# Altium schematic symbol library MainPCB_AISRobocup.SCHLIB: 48 symbols
Pins are listed as number, name and electrical type; pins without a type are passive.

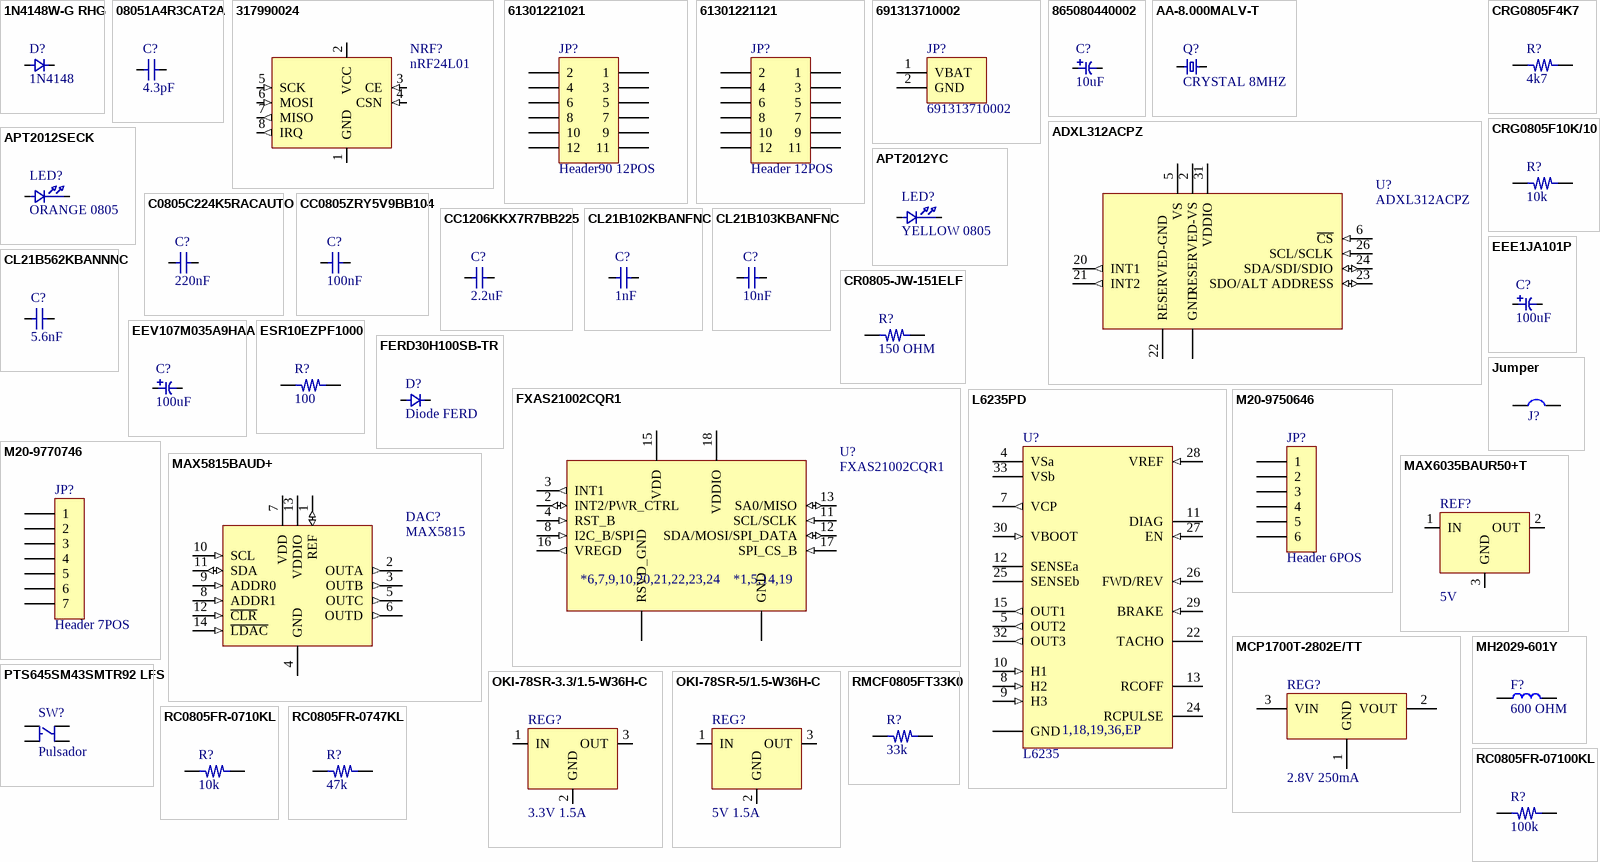
[diagram p0: symbols 1N4148W-G RHG to RMCF0805FT33K0]

## 1N4148W-G RHG
designator D?, comment 1N4148
DIODE GEN PURP 100V 150MA SOD123; Mfr 1: Taiwan Semiconductor Corporation; Mfr 1 PN: 1N4148W-G RHG
footprint SOD-123 (3.84 mm × 1.8 mm size of component)
pins: 1, 2

## 08051A4R3CAT2A
designator C?, comment 4.3pF
CAP CER 4.3PF 100V NP0 0805; Mfr 1: AVX Corporation; Mfr 1 PN: 08051A4R3CAT2A
footprint C0805 (2.0 mm × 1.25 mm size of component)
pins: 1, 2

## 317990024
designator NRF?, comment nRF24L01
2.4G WIRELESS MODULE NRF24L01+PA; Mfr 1: Seeed Technology Co., Ltd; Mfr 1 PN: 317990024
footprint NRF24l01 (2.4G nRF24L01 Antenna Type Whip, Tilt)
pins: 1 GND (power), 2 VCC (power), 3 CE (in), 4 CSN (in), 5 SCK (in), 6 MOSI (in), 7 MISO (out), 8 IRQ (out)

## 61301221021
designator JP?, comment Header90 12POS
CONN HEADER R/A 12POS 2.54MM; Mfr 1: Wurth Electronics Inc.; Mfr 1 PN: 61301221021
footprint HEADER90_06X2
pins: 1, 2, 3, 4, 5, 6, 7, 8, 9, 10, 11, 12

## 61301221121
designator JP?, comment Header 12POS
CONN HEADER VERT 12POS 2.54MM; Mfr 1: Wurth Electronics Inc.; Mfr 1 PN: 61301221121
footprint HEADER_06X2
pins: 1, 2, 3, 4, 5, 6, 7, 8, 9, 10, 11, 12

## 691313710002
designator JP?
TERM BLOCK HDR 2POS 90DEG 5MM; Mfr 1: Wurth Electronics Inc.; Mfr 1 PN: 691313710002
footprint TB02
pins: 1 VBAT (power), 2 GND (power)

## 865080440002
designator C?, comment 10uF
CAP 10 UF 20% 25 V; Mfr 1: Wurth Electronics Inc.; Mfr 1 PN: 865080440002
footprint CAPAE5143X55M (Aluminum Electrolytic Capacitor, Body 4,30x4,30x5,50mm, IPC Low Density)
pins: 1, 2

## AA-8.000MALV-T
designator Q?, comment CRYSTAL 8MHZ
CRYSTAL 8.0000MHZ 8PF SMD; Mfr 1: TXC CORPORATION; Mfr 1 PN: AA-8.000MALV-T
footprint TXC 8MHZ Crystal (5.0 mm × 3.2 mm size of component)
pins: 1, 2

## ADXL312ACPZ
designator U?
ACCEL 1.5-12G I2C/SPI 32-LFCSP; Mfr 1: Analog Devices Inc.; Mfr 1 PN: ADXL312ACPZ
footprint PQFN50P500X500X155_HS-33N (PQFN, 32-Leads, Body 5,00x5,00mm, Pitch 0,50mm, Thermal Pad 3,60x3,60mm, IPC Medium Density)
pins: 1 GND (power), 2 RESERVED-VS (power), 3 GND (power), 4 GND (power), 5 VS (power), 6 ~{CS} (in), 20 INT1 (out), 21 INT2 (out), 22 RESERVED-GND (power), 23 SDO/ALT ADDRESS (io), 24 SDA/SDI/SDIO (io), 26 SCL/SCLK (in), 31 VDDIO (power), 33 GND (power)

## APT2012SECK
designator LED?, comment ORANGE 0805
LED ORANGE CLEAR CHIP SMD; Mfr 1: Kingbright; Mfr 1 PN: APT2012SECK
footprint LED0805
pins: A, K

## APT2012YC
designator LED?, comment YELLOW 0805
LED YELLOW CLEAR CHIP SMD; Mfr 1: Kingbright; Mfr 1 PN: APT2012YC
footprint LED0805
pins: A, K

## C0805C224K5RACAUTO
designator C?, comment 220nF
CAP CER 0.22UF 50V X7R 0805; Mfr 1: KEMET; Mfr 1 PN: C0805C224K5RACAUTO
footprint C0805 (2.0 mm × 1.25 mm size of component)
pins: 1, 2

## CC0805ZRY5V9BB104
designator C?, comment 100nF
CAP CER 0.1UF 50V Y5V 0805; Mfr 1: Yageo; Mfr 1 PN: CC0805ZRY5V9BB104
footprint C0805 (2.0 mm × 1.25 mm size of component)
pins: 1, 2

## CC1206KKX7R7BB225
designator C?, comment 2.2uF
CAP CER 2.2UF 16V X7R 1206; Mfr 1: Yageo; Mfr 1 PN: CC1206KKX7R7BB225
footprint C1206 (3.2 mm × 1.6 mm size of component)
pins: 1, 2

## CL21B102KBANFNC
designator C?, comment 1nF
CAP CER 1000PF 50V X7R 0805; Mfr 1: Samsung Electro-Mechanics; Mfr 1 PN: CL21B102KBANFNC
footprint C0805 (2.0 mm × 1.25 mm size of component)
pins: 1, 2

## CL21B103KBANFNC
designator C?, comment 10nF
CAP CER 10000PF 50V X7R 0805; Mfr 1: Samsung Electro-Mechanics; Mfr 1 PN: CL21B103KBANFNC
footprint C0805 (2.0 mm × 1.25 mm size of component)
pins: 1, 2

## CL21B562KBANNNC
designator C?, comment 5.6nF
CAP CER 5600PF 50V X7R 0805; Mfr 1: Samsung Electro-Mechanics; Mfr 1 PN: CL21B562KBANNNC
footprint C0805 (2.0 mm × 1.25 mm size of component)
pins: 1, 2

## CR0805-JW-151ELF
designator R?, comment 150 OHM
RES SMD 150 OHM 5% 1/8W 0805; Mfr 1: Bourns Inc.; Mfr 1 PN: CR0805-JW-151ELF
footprint R0805 (Chip Resistor, 2-Leads, Body 2,00x1,25mm, IPC Medium Density)
pins: 1, 2

## CRG0805F4K7
designator R?, comment 4k7
RES SMD 4.7K OHM 1% 1/8W 0805; Mfr 1: TE Connectivity Passive Product; Mfr 1 PN: CRG0805F4K7
footprint R0805 (Chip Resistor, 2-Leads, Body 2,00x1,25mm, IPC Medium Density)
pins: 1, 2

## CRG0805F10K/10
designator R?, comment 10k
RES SMD 10K OHM 1% 1/8W 0805; Mfr 1: TE Connectivity Passive Product; Mfr 1 PN: CRG0805F10K/10
footprint R0805 (2.0 mm × 1.25 mm size of component)
pins: 1, 2

## EEE1JA101P
designator C?, comment 100uF
CAP ALUM 100UF 20% 63V SMD; Mfr 1: Panasonic Electronic Components; Mfr 1 PN: EEE-1JA101P
footprint Radial SMD 10D (10.3 mm × 10.3 mm size of component)
pins: 1, 2

## EEV107M035A9HAA
designator C?, comment 100uF
CAP ALUM 100UF 20% 35V SMD; Mfr 1: KEMET; Mfr 1 PN: EEV107M035A9HAA
footprint Radial SMD 6.3D (6.6 mm × 7.8 mm size of component)
pins: 1, 2

## ESR10EZPF1000
designator R?, comment 100
RES SMD 100 OHM 1% 0.4W 0805; Mfr 1: Rohm Semiconductor; Mfr 1 PN: ESR10EZPF1000
footprint R0805 (2.0 mm × 1.25 mm size of component)
pins: 1, 2

## FERD30H100SB-TR
designator D?, comment Diode FERD
DIODE RECT 100V 30A DPAK; Mfr 1: STMicroelectronics; Mfr 1 PN: FERD30H100SB-TR
footprint DPAK (TO-252-3, DPak (2 Leads + Tab), SC-63)
pins: A, K

## FXAS21002CQR1
designator U?
GYROSCOPE 3-AXIS 24QFN; Mfr 1: NXP USA Inc.; Mfr 1 PN: FXAS21002CQR1
footprint Quad24
pins: 1 GND (power), 2 INT2/PWR_CTRL (io), 3 INT1 (out), 4 RST_B (in), 5 GND (power), 6 RSVD_GND (power), 7 RSVD_GND (power), 8 I2C_B/SPI (in), 9 RSVD_GND (power), 10 RSVD_GND (power), 11 SCL/SCLK (in), 12 SDA/MOSI/SPI_DATA (io), 13 SA0/MISO (io), 14 GND (power), 15 VDD (power), 16 VREGD (out), 17 SPI_CS_B (in), 18 VDDIO (power), 19 GND (power), 20 RSVD_GND (power), 21 RSVD_GND (power), 22 RSVD_GND (power), 23 RSVD_GND (power), 24 RSVD_GND (power)
text: *6,7,9,10,20,21,22,23,24; *1,5,14,19

## Jumper
designator J?  (value not drawn)
footprint Jumper (2.0 mm × 1.25 mm Jumper)
pins: 1, 2

## L6235PD
designator U?, comment L6235
IC MOTOR DRIVER PAR 36POWERSO; Mfr 1: STMicroelectronics; Mfr 1 PN: L6235PD
footprint POWERSO36 (2.0 mm × 1.25 mm size of component)
pins: 1 GND (power), 4 VSa (power), 5 OUT2 (out), 7 VCP (out), 8 H2 (in), 9 H3 (in), 10 H1 (in), 11 DIAG (oc), 12 SENSEa (power), 13 RCOFF, 15 OUT1 (out), 18 GND (power), 19 GND (power), 22 TACHO (oc), 24 RCPULSE, 25 SENSEb (power), 26 FWD/REV (in), 27 EN (in), 28 VREF (in), 29 BRAKE (in), 30 VBOOT (in), 32 OUT3 (out), 33 VSb (power), 36 GND (power), 37 GND (power)
text: 1,18,19,36,EP

## M20-9750646
designator JP?, comment Header 6POS
CONN HEADER R/A 6POS 2.54MM; Mfr 1: Harwin Inc.; Mfr 1 PN: M20-9750646
footprint Header90_06P
pins: 1, 2, 3, 4, 5, 6

## M20-9770746
designator JP?, comment Header 7POS
CONN HEADER VERT 7POS 2.54MM; Mfr 1: Harwin Inc.; Mfr 1 PN: M20-9770746
footprint Header_07P
pins: 1, 2, 3, 4, 5, 6, 7

## MAX5815BAUD+
designator DAC?, comment MAX5815
IC DAC 12BIT SRL 4CH 14TSSOP; Mfr 1: Maxim Integrated; Mfr 1 PN: MAX5815BAUD+
footprint 14 TSSOP (14-Lead Thin Shrink Small Outline Package (TSSOP), 5.1x4.4mm Wide, Pitch 0.65)
pins: 1 REF (io), 2 OUTA (out), 3 OUTB (out), 4 GND (power), 5 OUTC (out), 6 OUTD (out), 7 VDD (power), 8 ADDR1 (in), 9 ADDR0 (in), 10 SCL (in), 11 SDA (io), 12 ~{CLR} (in), 13 VDDIO (power), 14 ~{LDAC} (in)

## MAX6035BAUR50+T
designator REF?, comment 5V
IC VREF SERIES 5V SOT23-3; Mfr 1: Maxim Integrated; Mfr 1 PN: MAX6035BAUR50+T
footprint SOT23-3 (SOT23, 3-Leads, Body 2,86x2,37mm, Pitch 0,95mm, IPC Low Density)
pins: 1 IN (power), 2 OUT (power), 3 GND (power)

## MCP1700T-2802E/TT
designator REG?, comment 2.8V 250mA
IC REG LINEAR 2.8V 250MA SOT23-3; Mfr 1: Microchip Technology; Mfr 1 PN: MCP1700T-2802E/TT
footprint SOT23-3 (SOT23, 3-Leads, Body 2,86x2,37mm, Pitch 0,95mm, IPC Low Density)
pins: 1 GND (power), 2 VOUT (power), 3 VIN (power)

## MH2029-601Y
designator F?, comment 600 OHM
FERRITE BEAD 600 OHM 0805 1LN; Mfr 1: Bourns Inc.; Mfr 1 PN: MH2029-601Y
footprint FB0805 (2.0 mm × 1.25 mm size of component)
pins: 1, 2

## OKI-78SR-3.3/1.5-W36H-C
designator REG?, comment 3.3V 1.5A
DC DC CONVERTER 3.3V 5W; Mfr 1: Murata Power Solutions Inc.; Mfr 1 PN: OKI-78SR-3.3/1.5-W36H-C
footprint 3-SIP Module (10.9 mm × 17.0 mm size of component)
pins: 1 IN, 2 GND, 3 OUT

## OKI-78SR-5/1.5-W36H-C
designator REG?, comment 5V 1.5A
DC DC CONVERTER 5V 8W; Mfr 1: Murata Power Solutions Inc.; Mfr 1 PN: OKI-78SR-5/1.5-W36H-C
footprint 3-SIP Module (10.9 mm × 17.0 mm size of component)
pins: 1 IN, 2 GND, 3 OUT

## PTS645SM43SMTR92 LFS
designator SW?, comment Pulsador
SWITCH TACTILE SPST-NO 0.05A 12V; Mfr 1: C&K; Mfr 1 PN: PTS645SM43SMTR92 LFS
footprint SMT (9.0 mm × 6.0 mm size of component)
pins: 1, 2, 3, 4

## RC0805FR-0710KL
designator R?, comment 10k
RES SMD 10K OHM 1% 1/8W 0805; Mfr 1: Yageo; Mfr 1 PN: RC0805FR-0710KL
footprint R0805 (2.0 mm × 1.25 mm size of component)
pins: 1, 2

## RC0805FR-0747KL
designator R?, comment 47k
RES SMD 47K OHM 1% 1/8W 0805; Mfr 1: Yageo; Mfr 1 PN: RC0805FR-0747KL
footprint R0805 (2.0 mm × 1.25 mm size of component)
pins: 1, 2

## RC0805FR-07100KL
designator R?, comment 100k
RES SMD 100K OHM 1% 1/8W 0805; Mfr 1: Yageo; Mfr 1 PN: RC0805FR-07100KL
footprint R0805 (2.0 mm × 1.25 mm size of component)
pins: 1, 2

## RMCF0805FT33K0
designator R?, comment 33k
RES 33K OHM 1% 1/8W 0805; Mfr 1: Stackpole Electronics Inc.; Mfr 1 PN: RMCF0805FT33K0
footprint R0805 (2.0 mm × 1.25 mm size of component)
pins: 1, 2

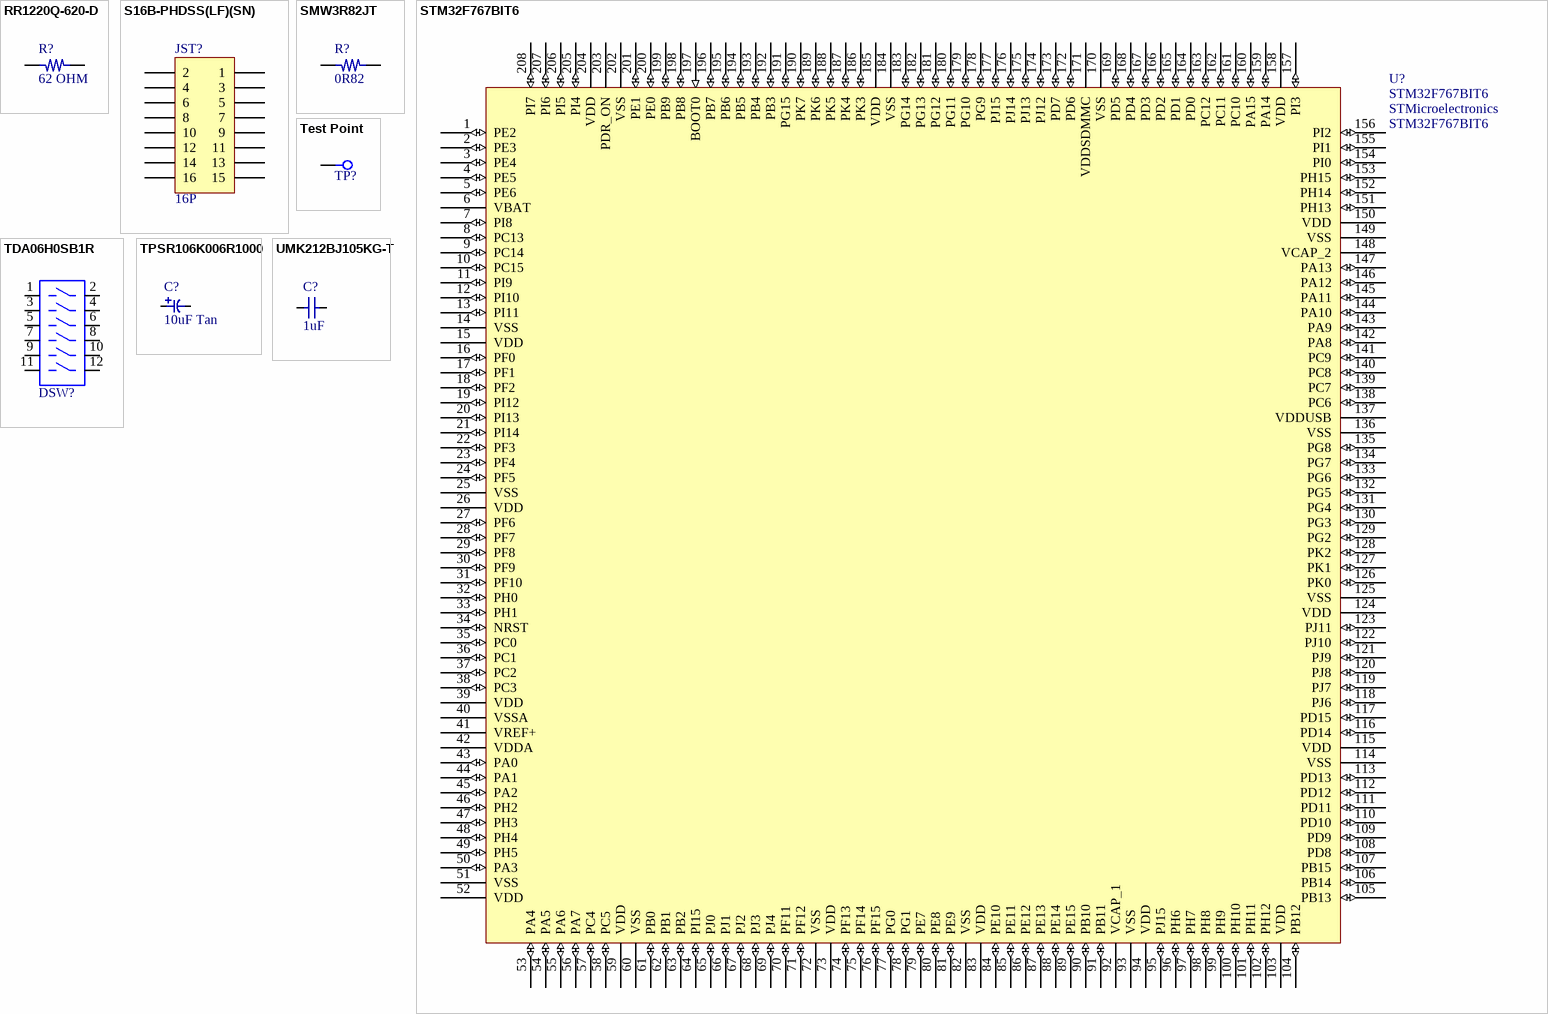
[diagram p1: symbols RR1220Q-620-D to UMK212BJ105KG-T]

## RR1220Q-620-D
designator R?, comment 62 OHM
RES SMD 62 OHM 0.5% 1/10W 0805; Mfr 1: Susumu; Mfr 1 PN: RR1220Q-620-D
footprint R0805 (Chip Resistor, 2-Leads, Body 2,00x1,25mm, IPC Medium Density)
pins: 1, 2

## S16B-PHDSS(LF)(SN)
designator JST?, comment 16P
CONN HEADER PHD SIDE 16POS 2MM; Mfr 1: JST Sales America Inc.; Mfr 1 PN: S16B-PHDSS(LF)(SN)
footprint JST16P
pins: 1, 2, 3, 4, 5, 6, 7, 8, 9, 10, 11, 12, 13, 14, 15, 16 (power)

## SMW3R82JT
designator R?, comment 0R82
RES 0.82 OHM 5% 3W 4122; Mfr 1: TE Connectivity Passive Product; Mfr 1 PN: SMW3R82JT
footprint R4122 (10.5 mm × 5.5 mm size of component)
pins: 1, 2

## STM32F767BIT6
designator U?  Mfr 1: STMicroelectronics
IC MCU 32BIT 2MB FLASH 208LQFP; Mfr 1 PN: STM32F767BIT6
footprint 208LQFP (LQFP208, 28 x 28 mm, 208-pin low-profile quad flat package)
pins: 1 PE2 (io), 2 PE3 (io), 3 PE4 (io), 4 PE5 (io), 5 PE6 (io), 6 VBAT (power), 7 PI8 (io), 8 PC13 (io), 9 PC14 (io), 10 PC15 (io), 11 PI9 (io), 12 PI10 (io), 13 PI11 (io), 14 VSS (power), 15 VDD (power), 16 PF0 (io), 17 PF1 (io), 18 PF2 (io), 19 PI12 (io), 20 PI13 (io), 21 PI14 (io), 22 PF3 (io), 23 PF4 (io), 24 PF5 (io), 25 VSS (power), 26 VDD (power), 27 PF6 (io), 28 PF7 (io), 29 PF8 (io), 30 PF9 (io), 31 PF10 (io), 32 PH0 (io), 33 PH1 (io), 34 NRST (io), 35 PC0 (io), 36 PC1 (io), 37 PC2 (io), 38 PC3 (io), 39 VDD (power), 40 VSSA (power), 41 VREF+ (power), 42 VDDA (power), 43 PA0 (io), 44 PA1 (io), 45 PA2 (io), 46 PH2 (io), 47 PH3 (io), 48 PH4 (io), 49 PH5 (io), 50 PA3 (io), 51 VSS (power), 52 VDD (power), 53 PA4 (io), 54 PA5 (io), 55 PA6 (io), 56 PA7 (io), 57 PC4 (io), 58 PC5 (io), 59 VDD (power), 60 VSS (power), 61 PB0 (io), 62 PB1 (io), 63 PB2 (io), 64 PI15 (io), 65 PJ0 (io), 66 PJ1 (io), 67 PJ2 (io), 68 PJ3 (io), 69 PJ4 (io), 70 PF11 (io), 71 PF12 (io), 72 VSS (power), 73 VDD (power), 74 PF13 (io), 75 PF14 (io), 76 PF15 (io), 77 PG0 (io), 78 PG1 (io), 79 PE7 (io), 80 PE8 (io), 81 PE9 (io), 82 VSS (power), 83 VDD (power), 84 PE10 (io), 85 PE11 (io), 86 PE12 (io), 87 PE13 (io), 88 PE14 (io), 89 PE15 (io), 90 PB10 (io), 91 PB11 (io), 92 VCAP_1 (power), 93 VSS (power), 94 VDD (power), 95 PJ15 (io), 96 PH6 (io), 97 PH7 (io), 98 PH8 (io), 99 PH9 (io), 100 PH10 (io), 101 PH11 (io), 102 PH12 (io), 103 VDD (power), 104 PB12 (io), 105 PB13 (io), 106 PB14 (io), 107 PB15 (io), 108 PD8 (io), 109 PD9 (io), 110 PD10 (io), 111 PD11 (io), 112 PD12 (io), 113 PD13 (io), 114 VSS (power), 115 VDD (power), 116 PD14 (io), 117 PD15 (io), 118 PJ6 (io), 119 PJ7 (io), 120 PJ8 (io), 121 PJ9 (io), 122 PJ10 (io), 123 PJ11 (io), 124 VDD (power), 125 VSS (power), 126 PK0 (io), 127 PK1 (io), 128 PK2 (io), 129 PG2 (io), 130 PG3 (io), 131 PG4 (io), 132 PG5 (io), 133 PG6 (io), 134 PG7 (io), 135 PG8 (io), 136 VSS (power), 137 VDDUSB (power), 138 PC6 (io), 139 PC7 (io), 140 PC8 (io), 141 PC9 (io), 142 PA8 (io), 143 PA9 (io), 144 PA10 (io), 145 PA11 (io), 146 PA12 (io), 147 PA13 (io), 148 VCAP_2 (power), 149 VSS (power), 150 VDD (power), 151 PH13 (io), 152 PH14 (io), 153 PH15 (io), 154 PI0 (io), 155 PI1 (io), 156 PI2 (io), 157 PI3 (io), 158 VDD (power), 159 PA14 (io), 160 PA15 (io), 161 PC10 (io), 162 PC11 (io), 163 PC12 (io), 164 PD0 (io), 165 PD1 (io), 166 PD2 (io), 167 PD3 (io), 168 PD4 (io), 169 PD5 (io), 170 VSS (power), 171 VDDSDMMC (power), 172 PD6 (io), 173 PD7 (io), 174 PJ12 (io), 175 PJ13 (io), 176 PJ14 (io), 177 PJ15 (io), 178 PG9 (io), 179 PG10 (io), 180 PG11 (io), 181 PG12 (io), 182 PG13 (io), 183 PG14 (io), 184 VSS (power), 185 VDD (power), 186 PK3 (io), 187 PK4 (io), 188 PK5 (io), 189 PK6 (io), 190 PK7 (io), 191 PG15 (io), 192 PB3 (io), 193 PB4 (io), 194 PB5 (io), 195 PB6 (io), 196 PB7 (io), 197 BOOT0 (in), 198 PB8 (io), 199 PB9 (io), 200 PE0 (io), 201 PE1 (io), 202 VSS (power), 203 PDR_ON (power), 204 VDD (power), 205 PI4 (io), 206 PI5 (io), 207 PI6 (io), 208 PI7 (io)

## TDA06H0SB1R
designator DSW?, comment Dip Switch SPST 6 Position  (value not drawn)
Dip Switch SPST 6 Position Surface Mount Slide (Standard) Actuator 25mA 24VDC; Mfr 1: C&K; Mfr 1 PN: TDA06H0SB1R
footprint DIPSWITCH06
footprint DIPSWITCH06
pins: 1, 2, 3, 4, 5, 6, 7, 8, 9, 10, 11, 12

## Test Point
designator TP?  (value not drawn)
footprint Test Point 1.2 (1.2 mm x 1.2mm round)
pins: 1

## TPSR106K006R1000
designator C?, comment 10uF Tan
CAP TANT 10UF 10% 6.3V 0805; Mfr 1: AVX Corporation; Mfr 1 PN: TPSR106K006R1000
footprint CT0805
pins: 1, 2

## UMK212BJ105KG-T
designator C?, comment 1uF
CAP CER 1UF 50V X5R 0805; Mfr 1: Taiyo Yuden; Mfr 1 PN: UMK212BJ105KG-T
footprint C0805 (2.0 mm × 1.25 mm size of component)
pins: 1, 2